# Altium schematic symbol library ADCMP371.Schlib: 1 symbol
Pins are listed as number, name and electrical type; pins without a type are passive.

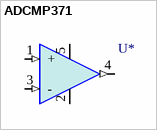
[diagram p0: symbol ADCMP371]

## ADCMP371
designator U*
General-Purpose Comparators
footprint SC70
pins: 1 + (in), 2 -U (power), 3 - (in), 4 Out (out), 5 +U (power)